# Altium footprint library PSON50P140X80_HS-13N.PcbLib: 1 footprints
Each footprint in its own frame and in the unit in brackets; x right, y up, seen from the top. Pads: shape width x height; smd on the part's side, far side on the other; paste and mask are expansions set on the pad; w line width, h text height; cw(c..) or ccw(c..) is an arc to the next point about the centre after c.
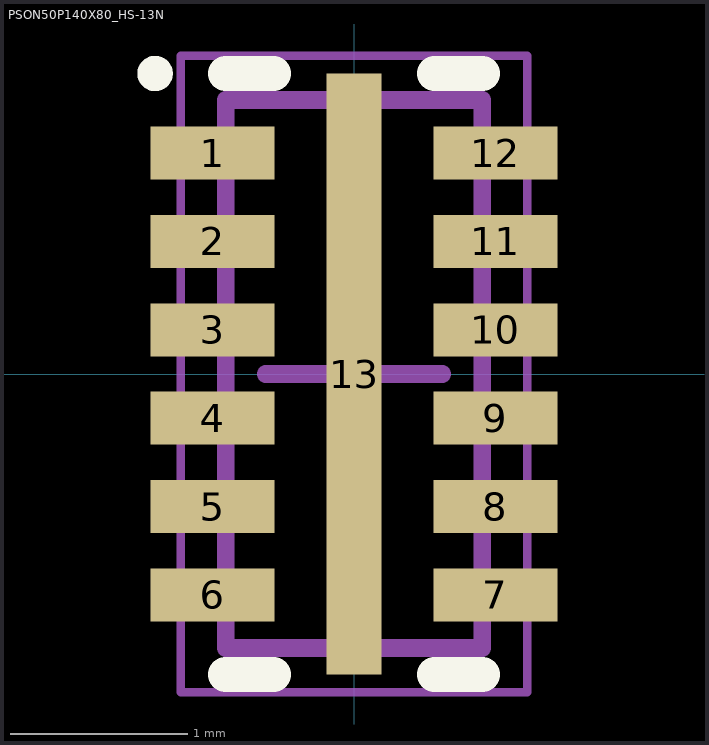
[diagram p0: the footprint, top view; thin cyan lines are the x and y axes]

## PSON50P140X80_HS-13N [mm] "PSON, 12-Leads, Body 3.00x1.35mm, Pitch 0.50mm, Thermal Pad 3.05x0.31mm, IPC Medium Density"
height 0.8
pads (13):
  rect 0.7x0.3 smd: 1(-0.8,1.25) 2(-0.8,0.75) 3(-0.8,0.25) 4(-0.8,-0.25) 5(-0.8,-0.75) 6(-0.8,-1.25) 7(0.8,-1.25) 8(0.8,-0.75) 9(0.8,-0.25) 10(0.8,0.25) 11(0.8,0.75) 12(0.8,1.25)
  rect 0.31x3.4 smd: 13(0,0)
Top Overlay:
  circle w0.1: c-1.125,1.7 r0.05
  lines w0.2: -0.725,-1.7 -0.455,-1.7 ; -0.725,1.7 -0.455,1.7 ; 0.455,-1.7 0.725,-1.7 ; 0.455,1.7 0.725,1.7
Mechanical 13:
  lines w0.1: -0.725,-1.55 -0.725,1.55 0.725,1.55 0.725,-1.55 -0.725,-1.55
Mechanical 15:
  lines w0.05: -0.98,-1.8 -0.98,1.8 0.98,1.8 0.98,-1.8 -0.98,-1.8
  lines w0.1: -0.5,0 0.5,0 ; 0,-0.5 0,0.5
3D body: height 0.8, standoff 0, extent -0.725,-1.55 0.725,1.55